# Altium footprint library LIFCL-17-7SG72C.PcbLib: 3 footprints
Each footprint in its own frame and in the unit in brackets; x right, y up, seen from the top. Pads: shape width x height; smd on the part's side, far side on the other; paste and mask are expansions set on the pad; w line width, h text height; cw(c..) or ccw(c..) is an arc to the next point about the centre after c.
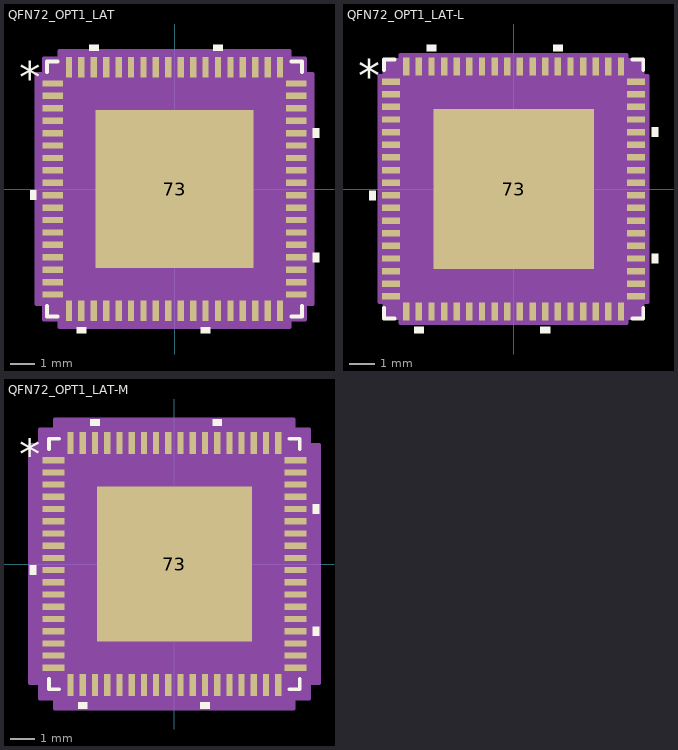
[diagram p0: the footprints below, top view; thin cyan lines are the x and y axes]

## QFN72_OPT1_LAT [mil]
pads (73):
  rect 32x10 smd paste+0 mask+0: 1(-193,167.32) 2(-193,147.64) 3(-193,127.95) 4(-193,108.27) 5(-193,88.58) 6(-193,68.9) 7(-193,49.21) 8(-193,29.53) 9(-193,9.84) 10(-193,-9.84) 11(-193,-29.53) 12(-193,-49.21) 13(-193,-68.9) 14(-193,-88.58) 15(-193,-108.27) 16(-193,-127.95) 17(-193,-147.64) 18(-193,-167.32) 37(193,-167.32) 38(193,-147.64) 39(193,-127.95) 40(193,-108.27) 41(193,-88.58) 42(193,-68.9) 43(193,-49.21) 44(193,-29.53) 45(193,-9.84) 46(193,9.84) 47(193,29.53) 48(193,49.21) 49(193,68.9) 50(193,88.58) 51(193,108.27) 52(193,127.95) 53(193,147.64) 54(193,167.32)
  rect 10x32 smd paste+0 mask+0: 19(-167.32,-193) 20(-147.64,-193) 21(-127.95,-193) 22(-108.27,-193) 23(-88.58,-193) 24(-68.9,-193) 25(-49.21,-193) 26(-29.53,-193) 27(-9.84,-193) 28(9.84,-193) 29(29.53,-193) 30(49.21,-193) 31(68.9,-193) 32(88.58,-193) 33(108.27,-193) 34(127.95,-193) 35(147.64,-193) 36(167.32,-193) 55(167.32,193) 56(147.64,193) 57(127.95,193) 58(108.27,193) 59(88.58,193) 60(68.9,193) 61(49.21,193) 62(29.53,193) 63(9.84,193) 64(-9.84,193) 65(-29.53,193) 66(-49.21,193) 67(-68.9,193) 68(-88.58,193) 69(-108.27,193) 70(-127.95,193) 71(-147.64,193) 72(-167.32,193)
  rect 250x250 smd paste-125 mask+0: 73(0,0)
Top Overlay:
  region: -219,-2.34 -229,-2.34 -229,-17.34 -219,-17.34
  region: -140.14,-219 -155.14,-219 -155.14,-229 -140.14,-229
  region: 56.71,-219 41.71,-219 41.71,-229 56.71,-229
  region: 219,-100.77 229,-100.77 229,-115.77 219,-115.77
  region: 219,96.08 229,96.08 229,81.08 219,81.08
  region: 76.4,219 61.4,219 61.4,229 76.4,229
  region: -120.45,219 -135.45,219 -135.45,229 -120.45,229
  lines w6: -202,-185.42 -202,-202 -185.42,-202 ; -202,185.42 -202,202 -185.42,202 ; 185.42,-202 202,-202 202,-185.42 ; 185.42,202 202,202 202,185.42
  text "*" at -246.5,152.17 h50
Top Paste:
  region: -78.94,121.06 -121.06,121.06 -121.06,78.94 -78.94,78.94
  region: -78.94,71.06 -121.06,71.06 -121.06,28.94 -78.94,28.94
  region: -78.94,21.06 -121.06,21.06 -121.06,-21.06 -78.94,-21.06
  region: -78.94,-28.94 -121.06,-28.94 -121.06,-71.06 -78.94,-71.06
  region: -78.94,-78.94 -121.06,-78.94 -121.06,-121.06 -78.94,-121.06
  region: -28.94,121.06 -71.06,121.06 -71.06,78.94 -28.94,78.94
  region: -28.94,71.06 -71.06,71.06 -71.06,28.94 -28.94,28.94
  region: -28.94,21.06 -71.06,21.06 -71.06,-21.06 -28.94,-21.06
  region: -28.94,-28.94 -71.06,-28.94 -71.06,-71.06 -28.94,-71.06
  region: -28.94,-78.94 -71.06,-78.94 -71.06,-121.06 -28.94,-121.06
  region: 21.06,121.06 -21.06,121.06 -21.06,78.94 21.06,78.94
  region: 21.06,71.06 -21.06,71.06 -21.06,28.94 21.06,28.94
  region: 21.06,21.06 -21.06,21.06 -21.06,-21.06 21.06,-21.06
  region: 21.06,-28.94 -21.06,-28.94 -21.06,-71.06 21.06,-71.06
  region: 21.06,-78.94 -21.06,-78.94 -21.06,-121.06 21.06,-121.06
  region: 71.06,121.06 28.94,121.06 28.94,78.94 71.06,78.94
  region: 71.06,71.06 28.94,71.06 28.94,28.94 71.06,28.94
  region: 71.06,21.06 28.94,21.06 28.94,-21.06 71.06,-21.06
  region: 71.06,-28.94 28.94,-28.94 28.94,-71.06 71.06,-71.06
  region: 71.06,-78.94 28.94,-78.94 28.94,-121.06 71.06,-121.06
  region: 121.06,121.06 78.94,121.06 78.94,78.94 121.06,78.94
  region: 121.06,71.06 78.94,71.06 78.94,28.94 121.06,28.94
  region: 121.06,21.06 78.94,21.06 78.94,-21.06 121.06,-21.06
  region: 121.06,-28.94 78.94,-28.94 78.94,-71.06 121.06,-71.06
  region: 121.06,-78.94 78.94,-78.94 78.94,-121.06 121.06,-121.06
Mechanical 13:
  drawing of 297 lines, arcs and shapes, not listed
  text "*" at -189.5,152.17 h50
Mechanical 15:
  region: -182.32,-207 -207,-207 -207,-182.32 -219,-182.32 -219,182.32 -207,182.32 -207,207 -182.32,207 -182.32,219 182.32,219 182.32,207 207,207 207,182.32 219,182.32 219,-182.32 207,-182.32 207,-207 182.32,-207 182.32,-219 -182.32,-219
  lines w6: -219,-182.32 -207,-182.32 -207,-207 -182.32,-207 -182.32,-219 182.32,-219 182.32,-207 207,-207 207,-182.32 219,-182.32 219,182.32 207,182.32 207,207 182.32,207 182.32,219 -182.32,219 -182.32,207 -207,207 -207,182.32 -219,182.32 -219,-182.32
3D body "QFN72_OPT1_LAT.step": height 35.12, standoff 0, extent -197.01,-197.01 197.01,197.01

## QFN72_OPT1_LAT-L [mil]
pads (73):
  rect 28x10 smd paste+0 mask+0: 1(-191,167.32) 2(-191,147.64) 3(-191,127.95) 4(-191,108.27) 5(-191,88.58) 6(-191,68.9) 7(-191,49.21) 8(-191,29.53) 9(-191,9.84) 10(-191,-9.84) 11(-191,-29.53) 12(-191,-49.21) 13(-191,-68.9) 14(-191,-88.58) 15(-191,-108.27) 16(-191,-127.95) 17(-191,-147.64) 18(-191,-167.32) 37(191,-167.32) 38(191,-147.64) 39(191,-127.95) 40(191,-108.27) 41(191,-88.58) 42(191,-68.9) 43(191,-49.21) 44(191,-29.53) 45(191,-9.84) 46(191,9.84) 47(191,29.53) 48(191,49.21) 49(191,68.9) 50(191,88.58) 51(191,108.27) 52(191,127.95) 53(191,147.64) 54(191,167.32)
  rect 10x28 smd paste+0 mask+0: 19(-167.32,-191) 20(-147.64,-191) 21(-127.95,-191) 22(-108.27,-191) 23(-88.58,-191) 24(-68.9,-191) 25(-49.21,-191) 26(-29.53,-191) 27(-9.84,-191) 28(9.84,-191) 29(29.53,-191) 30(49.21,-191) 31(68.9,-191) 32(88.58,-191) 33(108.27,-191) 34(127.95,-191) 35(147.64,-191) 36(167.32,-191) 55(167.32,191) 56(147.64,191) 57(127.95,191) 58(108.27,191) 59(88.58,191) 60(68.9,191) 61(49.21,191) 62(29.53,191) 63(9.84,191) 64(-9.84,191) 65(-29.53,191) 66(-49.21,191) 67(-68.9,191) 68(-88.58,191) 69(-108.27,191) 70(-127.95,191) 71(-147.64,191) 72(-167.32,191)
  rect 250x250 smd paste-125 mask+0: 73(0,0)
Top Overlay:
  region: -215,-2.34 -225,-2.34 -225,-17.34 -215,-17.34
  region: -140.14,-215 -155.14,-215 -155.14,-225 -140.14,-225
  region: 56.71,-215 41.71,-215 41.71,-225 56.71,-225
  region: 215,-100.77 225,-100.77 225,-115.77 215,-115.77
  region: 215,96.08 225,96.08 225,81.08 215,81.08
  region: 76.4,215 61.4,215 61.4,225 76.4,225
  region: -120.45,215 -135.45,215 -135.45,225 -120.45,225
  lines w6: -202,-185.42 -202,-202 -185.42,-202 ; -202,185.42 -202,202 -185.42,202 ; 185.42,-202 202,-202 202,-185.42 ; 185.42,202 202,202 202,185.42
  text "*" at -242.5,152.17 h50
Top Paste:
  region: -78.94,121.06 -121.06,121.06 -121.06,78.94 -78.94,78.94
  region: -78.94,71.06 -121.06,71.06 -121.06,28.94 -78.94,28.94
  region: -78.94,21.06 -121.06,21.06 -121.06,-21.06 -78.94,-21.06
  region: -78.94,-28.94 -121.06,-28.94 -121.06,-71.06 -78.94,-71.06
  region: -78.94,-78.94 -121.06,-78.94 -121.06,-121.06 -78.94,-121.06
  region: -28.94,121.06 -71.06,121.06 -71.06,78.94 -28.94,78.94
  region: -28.94,71.06 -71.06,71.06 -71.06,28.94 -28.94,28.94
  region: -28.94,21.06 -71.06,21.06 -71.06,-21.06 -28.94,-21.06
  region: -28.94,-28.94 -71.06,-28.94 -71.06,-71.06 -28.94,-71.06
  region: -28.94,-78.94 -71.06,-78.94 -71.06,-121.06 -28.94,-121.06
  region: 21.06,121.06 -21.06,121.06 -21.06,78.94 21.06,78.94
  region: 21.06,71.06 -21.06,71.06 -21.06,28.94 21.06,28.94
  region: 21.06,21.06 -21.06,21.06 -21.06,-21.06 21.06,-21.06
  region: 21.06,-28.94 -21.06,-28.94 -21.06,-71.06 21.06,-71.06
  region: 21.06,-78.94 -21.06,-78.94 -21.06,-121.06 21.06,-121.06
  region: 71.06,121.06 28.94,121.06 28.94,78.94 71.06,78.94
  region: 71.06,71.06 28.94,71.06 28.94,28.94 71.06,28.94
  region: 71.06,21.06 28.94,21.06 28.94,-21.06 71.06,-21.06
  region: 71.06,-28.94 28.94,-28.94 28.94,-71.06 71.06,-71.06
  region: 71.06,-78.94 28.94,-78.94 28.94,-121.06 71.06,-121.06
  region: 121.06,121.06 78.94,121.06 78.94,78.94 121.06,78.94
  region: 121.06,71.06 78.94,71.06 78.94,28.94 121.06,28.94
  region: 121.06,21.06 78.94,21.06 78.94,-21.06 121.06,-21.06
  region: 121.06,-28.94 78.94,-28.94 78.94,-71.06 121.06,-71.06
  region: 121.06,-78.94 78.94,-78.94 78.94,-121.06 121.06,-121.06
Mechanical 13:
  drawing of 297 lines, arcs and shapes, not listed
  text "*" at -189.5,152.17 h50
Mechanical 15:
  region: -176.32,-201 -201,-201 -201,-176.32 -209,-176.32 -209,176.32 -201,176.32 -201,201 -176.32,201 -176.32,209 176.32,209 176.32,201 201,201 201,176.32 209,176.32 209,-176.32 201,-176.32 201,-201 176.32,-201 176.32,-209 -176.32,-209
  lines w6: -209,-176.32 -201,-176.32 -201,-201 -176.32,-201 -176.32,-209 176.32,-209 176.32,-201 201,-201 201,-176.32 209,-176.32 209,176.32 201,176.32 201,201 176.32,201 176.32,209 -176.32,209 -176.32,201 -201,201 -201,176.32 -209,176.32 -209,-176.32
3D body "QFN72_OPT1_LAT.step": height 35.12, standoff 0, extent -197.01,-197.01 197.01,197.01

## QFN72_OPT1_LAT-M [mil]
pads (73):
  rect 36x10 smd paste+0 mask+0: 1(-195,167.32) 2(-195,147.64) 3(-195,127.95) 4(-195,108.27) 5(-195,88.58) 6(-195,68.9) 7(-195,49.21) 8(-195,29.53) 9(-195,9.84) 10(-195,-9.84) 11(-195,-29.53) 12(-195,-49.21) 13(-195,-68.9) 14(-195,-88.58) 15(-195,-108.27) 16(-195,-127.95) 17(-195,-147.64) 18(-195,-167.32) 37(195,-167.32) 38(195,-147.64) 39(195,-127.95) 40(195,-108.27) 41(195,-88.58) 42(195,-68.9) 43(195,-49.21) 44(195,-29.53) 45(195,-9.84) 46(195,9.84) 47(195,29.53) 48(195,49.21) 49(195,68.9) 50(195,88.58) 51(195,108.27) 52(195,127.95) 53(195,147.64) 54(195,167.32)
  rect 10x36 smd paste+0 mask+0: 19(-167.32,-195) 20(-147.64,-195) 21(-127.95,-195) 22(-108.27,-195) 23(-88.58,-195) 24(-68.9,-195) 25(-49.21,-195) 26(-29.53,-195) 27(-9.84,-195) 28(9.84,-195) 29(29.53,-195) 30(49.21,-195) 31(68.9,-195) 32(88.58,-195) 33(108.27,-195) 34(127.95,-195) 35(147.64,-195) 36(167.32,-195) 55(167.32,195) 56(147.64,195) 57(127.95,195) 58(108.27,195) 59(88.58,195) 60(68.9,195) 61(49.21,195) 62(29.53,195) 63(9.84,195) 64(-9.84,195) 65(-29.53,195) 66(-49.21,195) 67(-68.9,195) 68(-88.58,195) 69(-108.27,195) 70(-127.95,195) 71(-147.64,195) 72(-167.32,195)
  rect 250x250 smd paste-125 mask+0: 73(0,0)
Top Overlay:
  region: -223,-2.34 -233,-2.34 -233,-17.34 -223,-17.34
  region: -140.14,-223 -155.14,-223 -155.14,-233 -140.14,-233
  region: 56.71,-223 41.71,-223 41.71,-233 56.71,-233
  region: 223,-100.77 233,-100.77 233,-115.77 223,-115.77
  region: 223,96.08 233,96.08 233,81.08 223,81.08
  region: 76.4,223 61.4,223 61.4,233 76.4,233
  region: -120.45,223 -135.45,223 -135.45,233 -120.45,233
  lines w6: -202,-185.42 -202,-202 -185.42,-202 ; -202,185.42 -202,202 -185.42,202 ; 185.42,-202 202,-202 202,-185.42 ; 185.42,202 202,202 202,185.42
  text "*" at -250.5,152.17 h50
Top Paste:
  region: -78.94,121.06 -121.06,121.06 -121.06,78.94 -78.94,78.94
  region: -78.94,71.06 -121.06,71.06 -121.06,28.94 -78.94,28.94
  region: -78.94,21.06 -121.06,21.06 -121.06,-21.06 -78.94,-21.06
  region: -78.94,-28.94 -121.06,-28.94 -121.06,-71.06 -78.94,-71.06
  region: -78.94,-78.94 -121.06,-78.94 -121.06,-121.06 -78.94,-121.06
  region: -28.94,121.06 -71.06,121.06 -71.06,78.94 -28.94,78.94
  region: -28.94,71.06 -71.06,71.06 -71.06,28.94 -28.94,28.94
  region: -28.94,21.06 -71.06,21.06 -71.06,-21.06 -28.94,-21.06
  region: -28.94,-28.94 -71.06,-28.94 -71.06,-71.06 -28.94,-71.06
  region: -28.94,-78.94 -71.06,-78.94 -71.06,-121.06 -28.94,-121.06
  region: 21.06,121.06 -21.06,121.06 -21.06,78.94 21.06,78.94
  region: 21.06,71.06 -21.06,71.06 -21.06,28.94 21.06,28.94
  region: 21.06,21.06 -21.06,21.06 -21.06,-21.06 21.06,-21.06
  region: 21.06,-28.94 -21.06,-28.94 -21.06,-71.06 21.06,-71.06
  region: 21.06,-78.94 -21.06,-78.94 -21.06,-121.06 21.06,-121.06
  region: 71.06,121.06 28.94,121.06 28.94,78.94 71.06,78.94
  region: 71.06,71.06 28.94,71.06 28.94,28.94 71.06,28.94
  region: 71.06,21.06 28.94,21.06 28.94,-21.06 71.06,-21.06
  region: 71.06,-28.94 28.94,-28.94 28.94,-71.06 71.06,-71.06
  region: 71.06,-78.94 28.94,-78.94 28.94,-121.06 71.06,-121.06
  region: 121.06,121.06 78.94,121.06 78.94,78.94 121.06,78.94
  region: 121.06,71.06 78.94,71.06 78.94,28.94 121.06,28.94
  region: 121.06,21.06 78.94,21.06 78.94,-21.06 121.06,-21.06
  region: 121.06,-28.94 78.94,-28.94 78.94,-71.06 121.06,-71.06
  region: 121.06,-78.94 78.94,-78.94 78.94,-121.06 121.06,-121.06
Mechanical 13:
  drawing of 297 lines, arcs and shapes, not listed
  text "*" at -189.5,152.17 h50
Mechanical 15:
  region: -192.32,-217 -217,-217 -217,-192.32 -233,-192.32 -233,192.32 -217,192.32 -217,217 -192.32,217 -192.32,233 192.32,233 192.32,217 217,217 217,192.32 233,192.32 233,-192.32 217,-192.32 217,-217 192.32,-217 192.32,-233 -192.32,-233
  lines w6: -233,-192.32 -217,-192.32 -217,-217 -192.32,-217 -192.32,-233 192.32,-233 192.32,-217 217,-217 217,-192.32 233,-192.32 233,192.32 217,192.32 217,217 192.32,217 192.32,233 -192.32,233 -192.32,217 -217,217 -217,192.32 -233,192.32 -233,-192.32
3D body "QFN72_OPT1_LAT.step": height 35.12, standoff 0, extent -197.01,-197.01 197.01,197.01